# Altium footprint library Captivate library.PcbLib: 39 footprints (part 2 of 3)
Each footprint in its own frame and in the unit in brackets; x right, y up, seen from the top. Pads: shape width x height; smd on the part's side, far side on the other; paste and mask are expansions set on the pad; w line width, h text height; cw(c..) or ccw(c..) is an arc to the next point about the centre after c.
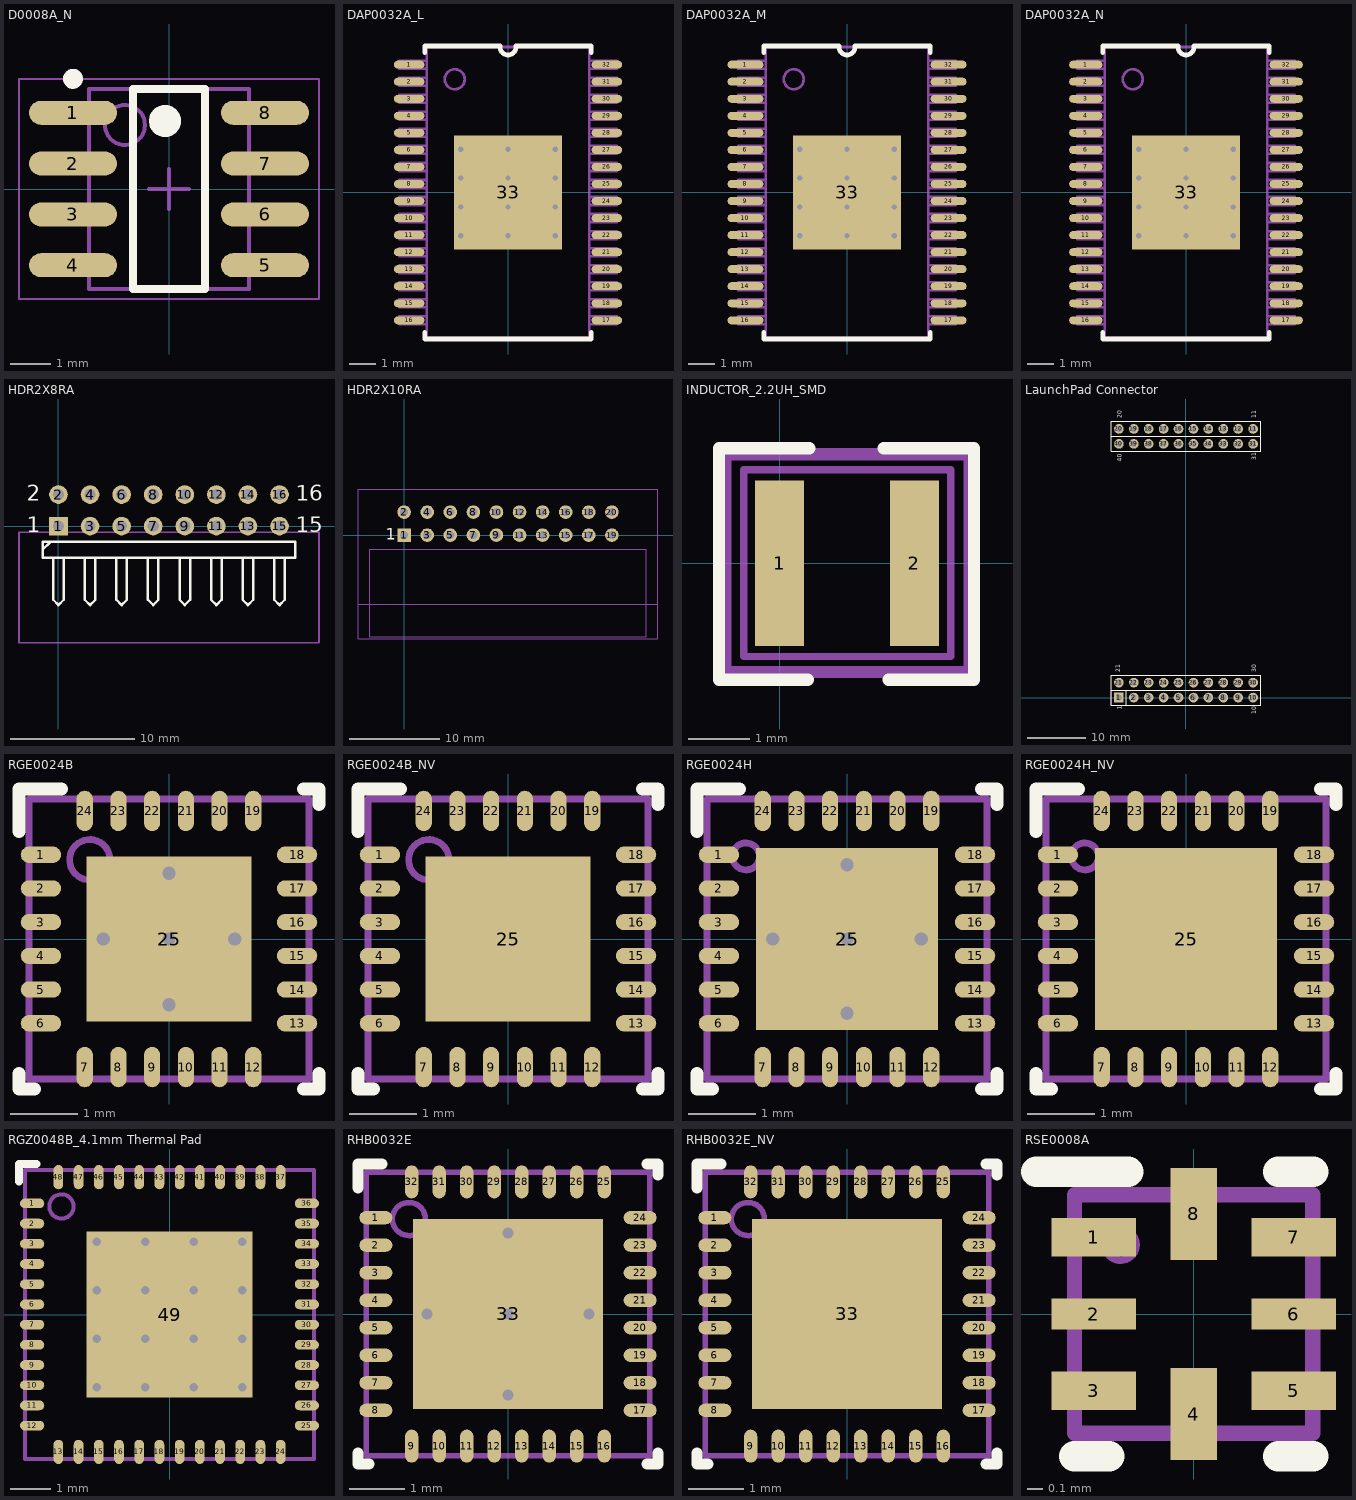
[diagram p1: the footprints below, top view; thin cyan lines are the x and y axes]

## D0008A_N [mm] "SOIC, 8-Leads, Body 4.9x3.9mm, Pitch 1.27mm, IPC Medium Density"
height 1.75
pads (8):
  oval 2.2x0.6 smd: 1(-2.4,1.905) 2(-2.4,0.635) 3(-2.4,-0.635) 4(-2.4,-1.905) 5(2.4,-1.905) 6(2.4,-0.635) 7(2.4,0.635) 8(2.4,1.905)
Top Overlay:
  circle w0.4: c-0.1,1.7 r0.2
  circle w0.25: c-2.4,2.755 r0.125
  lines w0.2: -0.9,-2.5 0.9,-2.5 0.9,2.5 -0.9,2.5 -0.9,-2.5
M5 Assembly Top:
  circle w0.1: c-1.1,1.6 r0.5
  lines w0.1: -2,-2.5 2,-2.5 2,2.5 -2,2.5 -2,-2.5
  text ".Designator" at -1.854,-0.508 h1.02
M15  Courtyards Top:
  lines w0.05: -3.75,-2.75 3.75,-2.75 3.75,2.75 -3.75,2.75 -3.75,-2.75
  lines w0.1: -0.5,0 0.5,0 ; 0,-0.5 0,0.5
3D body: height 1.75, standoff 0.1, extent -2,-2.5 2,2.5

## DAP0032A_L [mil]
height 47.24
pads (33):
  oval 46x12 smd: 1(-148.5,191.93) 2(-148.5,166.34) 3(-148.5,140.75) 4(-148.5,115.16) 5(-148.5,89.57) 6(-148.5,63.98) 7(-148.5,38.39) 8(-148.5,12.8) 9(-148.5,-12.8) 10(-148.5,-38.39) 11(-148.5,-63.98) 12(-148.5,-89.57) 13(-148.5,-115.16) 14(-148.5,-140.75) 15(-148.5,-166.34) 16(-148.5,-191.93) 17(148.5,-191.93) 18(148.5,-166.34) 19(148.5,-140.75) 20(148.5,-115.16) 21(148.5,-89.57) 22(148.5,-63.98) 23(148.5,-38.39) 24(148.5,-12.8) 25(148.5,12.8) 26(148.5,38.39) 27(148.5,63.98) 28(148.5,89.57) 29(148.5,115.16) 30(148.5,140.75) 31(148.5,166.34) 32(148.5,191.93)
  rect 161.81x171.65 smd: 33(0,0)
via -71.06,64.96 diameter 19.68 hole 7.87
via 0,64.96 diameter 19.68 hole 7.87
via 71.06,64.96 diameter 19.68 hole 7.87
via -71.06,21.65 diameter 19.68 hole 7.87
via 0,21.65 diameter 19.68 hole 7.87
via 71.06,21.65 diameter 19.68 hole 7.87
via -71.06,-21.65 diameter 19.68 hole 7.87
via 0,-21.65 diameter 19.68 hole 7.87
via 71.06,-21.65 diameter 19.68 hole 7.87
via -71.06,-64.96 diameter 19.68 hole 7.87
via 0,-64.96 diameter 19.68 hole 7.87
via 71.06,-64.96 diameter 19.68 hole 7.87
Top Overlay:
  lines w7: -125,-210 -125,-220 125,-220 125,-210 ; -125,210 -125,220 -12,220 ; -12,218.5 ccw(c0,218.5) 12,218.5 ; 12,220 125,220 125,210
M5 Assembly Top:
  circle w4: c-80,170 r15
  lines w4: -12,218.5 ccw(c0,218.5) 12,218.5 ; -163.5,-197.93 -122,-197.93 -122,-185.93 -163.5,-185.93 -163.5,-197.93 ; -163.5,-172.34 -122,-172.34 -122,-160.34 -163.5,-160.34 -163.5,-172.34 ; -163.5,-146.75 -122,-146.75 -122,-134.75 -163.5,-134.75 -163.5,-146.75 ; -163.5,-121.16 -122,-121.16 -122,-109.16 -163.5,-109.16 -163.5,-121.16 ; -163.5,-95.57 -122,-95.57 -122,-83.57 -163.5,-83.57 -163.5,-95.57 ; -163.5,-69.98 -122,-69.98 -122,-57.98 -163.5,-57.98 -163.5,-69.98 ; -163.5,-44.39 -122,-44.39 -122,-32.39 -163.5,-32.39 -163.5,-44.39 ; -163.5,-18.8 -122,-18.8 -122,-6.8 -163.5,-6.8 -163.5,-18.8 ; -163.5,6.8 -122,6.8 -122,18.8 -163.5,18.8 -163.5,6.8 ; -163.5,32.39 -122,32.39 -122,44.39 -163.5,44.39 -163.5,32.39 ; -163.5,57.98 -122,57.98 -122,69.98 -163.5,69.98 -163.5,57.98 ; -163.5,83.57 -122,83.57 -122,95.57 -163.5,95.57 -163.5,83.57 ; -163.5,109.16 -122,109.16 -122,121.16 -163.5,121.16 -163.5,109.16 ; -163.5,134.75 -122,134.75 -122,146.75 -163.5,146.75 -163.5,134.75 ; -163.5,160.34 -122,160.34 -122,172.34 -163.5,172.34 -163.5,160.34 ; -163.5,185.93 -122,185.93 -122,197.93 -163.5,197.93 -163.5,185.93 ; -122,-218.5 122,-218.5 122,218.5 -122,218.5 -122,-218.5 ; 122,-197.93 163.5,-197.93 163.5,-185.93 122,-185.93 122,-197.93 ; 122,-172.34 163.5,-172.34 163.5,-160.34 122,-160.34 122,-172.34 ; 122,-146.75 163.5,-146.75 163.5,-134.75 122,-134.75 122,-146.75 ; 122,-121.16 163.5,-121.16 163.5,-109.16 122,-109.16 122,-121.16 ; 122,-95.57 163.5,-95.57 163.5,-83.57 122,-83.57 122,-95.57 ; 122,-69.98 163.5,-69.98 163.5,-57.98 122,-57.98 122,-69.98 ; 122,-44.39 163.5,-44.39 163.5,-32.39 122,-32.39 122,-44.39 ; 122,-18.8 163.5,-18.8 163.5,-6.8 122,-6.8 122,-18.8 ; 122,6.8 163.5,6.8 163.5,18.8 122,18.8 122,6.8 ; 122,32.39 163.5,32.39 163.5,44.39 122,44.39 122,32.39 ; 122,57.98 163.5,57.98 163.5,69.98 122,69.98 122,57.98 ; 122,83.57 163.5,83.57 163.5,95.57 122,95.57 122,83.57 ; 122,109.16 163.5,109.16 163.5,121.16 122,121.16 122,109.16 ; 122,134.75 163.5,134.75 163.5,146.75 122,146.75 122,134.75 ; 122,160.34 163.5,160.34 163.5,172.34 122,172.34 122,160.34 ; 122,185.93 163.5,185.93 163.5,197.93 122,197.93 122,185.93
  text ".Designator" at -70,-20 h40
3D body: height 47.64, standoff 39.37, extent -96.35,161.17 -56.25,201.27
3D body: height 47.24, standoff 0, extent -121.98,-218.48 121.98,218.48
3D body: height 23.62, standoff 0, extent -163.48,185.96 -122.02,197.92
3D body: height 23.62, standoff 0, extent -163.48,160.36 -122.02,172.32
3D body: height 23.62, standoff 0, extent -163.48,32.41 -122.02,44.37
3D body: height 23.62, standoff 0, extent -163.48,58 -122.02,69.96
3D body: height 23.62, standoff 0, extent -163.48,83.59 -122.02,95.55
3D body: height 23.62, standoff 0, extent -163.48,134.77 -122.02,146.73
3D body: height 23.62, standoff 0, extent -163.48,109.18 -122.02,121.14
3D body: height 23.62, standoff 0, extent -163.48,6.82 -122.02,18.78
3D body: height 23.62, standoff 0, extent -163.48,-197.91 -122.02,-185.95
3D body: height 23.62, standoff 0, extent -163.48,-172.32 -122.02,-160.36
3D body: height 23.62, standoff 0, extent -163.48,-146.73 -122.02,-134.77
3D body: height 23.62, standoff 0, extent -163.48,-121.14 -122.02,-109.18
3D body: height 23.62, standoff 0, extent -163.48,-95.55 -122.02,-83.59
3D body: height 23.62, standoff 0, extent -163.48,-69.95 -122.02,-57.99
3D body: height 23.62, standoff 0, extent -163.48,-44.36 -122.02,-32.4
3D body: height 23.62, standoff 0, extent -163.48,-18.77 -122.02,-6.81
3D body: height 23.62, standoff 0, extent 122.02,58 163.48,69.96
3D body: height 23.62, standoff 0, extent 122.02,6.82 163.48,18.78
3D body: height 23.62, standoff 0, extent 122.02,32.41 163.48,44.37
3D body: height 23.62, standoff 0, extent 122.02,-18.77 163.48,-6.81
3D body: height 23.62, standoff 0, extent 122.02,-44.36 163.48,-32.4
3D body: height 23.62, standoff 0, extent 122.02,-69.95 163.48,-57.99
3D body: height 23.62, standoff 0, extent 122.02,-95.55 163.48,-83.59
3D body: height 23.62, standoff 0, extent 122.02,-121.14 163.48,-109.18
3D body: height 23.62, standoff 0, extent 122.02,-146.73 163.48,-134.77
3D body: height 23.62, standoff 0, extent 122.02,-172.32 163.48,-160.36
3D body: height 23.62, standoff 0, extent 122.02,-197.91 163.48,-185.95
3D body: height 23.62, standoff 0, extent 122.02,109.18 163.48,121.14
3D body: height 23.62, standoff 0, extent 122.02,134.77 163.48,146.73
3D body: height 23.62, standoff 0, extent 122.02,185.96 163.48,197.92
3D body: height 23.62, standoff 0, extent 122.02,160.36 163.48,172.32
3D body: height 23.62, standoff 0, extent 122.02,83.59 163.48,95.55

## DAP0032A_M [mil]
height 47.24
pads (33):
  oval 54x12 smd: 1(-152.5,191.93) 2(-152.5,166.34) 3(-152.5,140.75) 4(-152.5,115.16) 5(-152.5,89.57) 6(-152.5,63.98) 7(-152.5,38.39) 8(-152.5,12.8) 9(-152.5,-12.8) 10(-152.5,-38.39) 11(-152.5,-63.98) 12(-152.5,-89.57) 13(-152.5,-115.16) 14(-152.5,-140.75) 15(-152.5,-166.34) 16(-152.5,-191.93) 17(152.5,-191.93) 18(152.5,-166.34) 19(152.5,-140.75) 20(152.5,-115.16) 21(152.5,-89.57) 22(152.5,-63.98) 23(152.5,-38.39) 24(152.5,-12.8) 25(152.5,12.8) 26(152.5,38.39) 27(152.5,63.98) 28(152.5,89.57) 29(152.5,115.16) 30(152.5,140.75) 31(152.5,166.34) 32(152.5,191.93)
  rect 161.81x171.65 smd: 33(0,0)
via 71.06,-64.96 diameter 19.68 hole 7.87
via 0,-64.96 diameter 19.68 hole 7.87
via -71.06,-64.96 diameter 19.68 hole 7.87
via 71.06,-21.65 diameter 19.68 hole 7.87
via 0,-21.65 diameter 19.68 hole 7.87
via -71.06,-21.65 diameter 19.68 hole 7.87
via 71.06,21.65 diameter 19.68 hole 7.87
via 0,21.65 diameter 19.68 hole 7.87
via -71.06,21.65 diameter 19.68 hole 7.87
via 71.06,64.96 diameter 19.68 hole 7.87
via 0,64.96 diameter 19.68 hole 7.87
via -71.06,64.96 diameter 19.68 hole 7.87
Top Overlay:
  lines w7: -125,-210 -125,-220 125,-220 125,-210 ; -125,210 -125,220 -12,220 ; -12,218.5 ccw(c0,218.5) 12,218.5 ; 12,220 125,220 125,210
M5 Assembly Top:
  circle w4: c-80,170 r15
  lines w4: -12,218.5 ccw(c0,218.5) 12,218.5 ; -163.5,-197.93 -163.5,-185.93 -122,-185.93 -122,-197.93 -163.5,-197.93 ; -163.5,-172.34 -163.5,-160.34 -122,-160.34 -122,-172.34 -163.5,-172.34 ; -163.5,-146.75 -163.5,-134.75 -122,-134.75 -122,-146.75 -163.5,-146.75 ; -163.5,-121.16 -163.5,-109.16 -122,-109.16 -122,-121.16 -163.5,-121.16 ; -163.5,-95.57 -163.5,-83.57 -122,-83.57 -122,-95.57 -163.5,-95.57 ; -163.5,-69.98 -163.5,-57.98 -122,-57.98 -122,-69.98 -163.5,-69.98 ; -163.5,-44.39 -163.5,-32.39 -122,-32.39 -122,-44.39 -163.5,-44.39 ; -163.5,-18.8 -163.5,-6.8 -122,-6.8 -122,-18.8 -163.5,-18.8 ; -163.5,6.8 -163.5,18.8 -122,18.8 -122,6.8 -163.5,6.8 ; -163.5,32.39 -163.5,44.39 -122,44.39 -122,32.39 -163.5,32.39 ; -163.5,57.98 -163.5,69.98 -122,69.98 -122,57.98 -163.5,57.98 ; -163.5,83.57 -163.5,95.57 -122,95.57 -122,83.57 -163.5,83.57 ; -163.5,109.16 -163.5,121.16 -122,121.16 -122,109.16 -163.5,109.16 ; -163.5,134.75 -163.5,146.75 -122,146.75 -122,134.75 -163.5,134.75 ; -163.5,160.34 -163.5,172.34 -122,172.34 -122,160.34 -163.5,160.34 ; -163.5,185.93 -163.5,197.93 -122,197.93 -122,185.93 -163.5,185.93 ; -122,-218.5 122,-218.5 122,218.5 -122,218.5 -122,-218.5 ; 122,-197.93 122,-185.93 163.5,-185.93 163.5,-197.93 122,-197.93 ; 122,-172.34 122,-160.34 163.5,-160.34 163.5,-172.34 122,-172.34 ; 122,-146.75 122,-134.75 163.5,-134.75 163.5,-146.75 122,-146.75 ; 122,-121.16 122,-109.16 163.5,-109.16 163.5,-121.16 122,-121.16 ; 122,-95.57 122,-83.57 163.5,-83.57 163.5,-95.57 122,-95.57 ; 122,-69.98 122,-57.98 163.5,-57.98 163.5,-69.98 122,-69.98 ; 122,-44.39 122,-32.39 163.5,-32.39 163.5,-44.39 122,-44.39 ; 122,-18.8 122,-6.8 163.5,-6.8 163.5,-18.8 122,-18.8 ; 122,6.8 122,18.8 163.5,18.8 163.5,6.8 122,6.8 ; 122,32.39 122,44.39 163.5,44.39 163.5,32.39 122,32.39 ; 122,57.98 122,69.98 163.5,69.98 163.5,57.98 122,57.98 ; 122,83.57 122,95.57 163.5,95.57 163.5,83.57 122,83.57 ; 122,109.16 122,121.16 163.5,121.16 163.5,109.16 122,109.16 ; 122,134.75 122,146.75 163.5,146.75 163.5,134.75 122,134.75 ; 122,160.34 122,172.34 163.5,172.34 163.5,160.34 122,160.34 ; 122,185.93 122,197.93 163.5,197.93 163.5,185.93 122,185.93
  text ".Designator" at -75,-15 h40
3D body: height 47.64, standoff 39.37, extent -96.35,161.17 -56.25,201.27
3D body: height 47.24, standoff 0, extent -121.98,-218.48 121.98,218.48
3D body: height 23.62, standoff 0, extent -163.48,185.96 -122.02,197.92
3D body: height 23.62, standoff 0, extent -163.48,160.36 -122.02,172.32
3D body: height 23.62, standoff 0, extent -163.48,32.41 -122.02,44.37
3D body: height 23.62, standoff 0, extent -163.48,58 -122.02,69.96
3D body: height 23.62, standoff 0, extent -163.48,83.59 -122.02,95.55
3D body: height 23.62, standoff 0, extent -163.48,134.77 -122.02,146.73
3D body: height 23.62, standoff 0, extent -163.48,109.18 -122.02,121.14
3D body: height 23.62, standoff 0, extent -163.48,6.82 -122.02,18.78
3D body: height 23.62, standoff 0, extent -163.48,-197.91 -122.02,-185.95
3D body: height 23.62, standoff 0, extent -163.48,-172.32 -122.02,-160.36
3D body: height 23.62, standoff 0, extent -163.48,-146.73 -122.02,-134.77
3D body: height 23.62, standoff 0, extent -163.48,-121.14 -122.02,-109.18
3D body: height 23.62, standoff 0, extent -163.48,-95.55 -122.02,-83.59
3D body: height 23.62, standoff 0, extent -163.48,-69.95 -122.02,-57.99
3D body: height 23.62, standoff 0, extent -163.48,-44.36 -122.02,-32.4
3D body: height 23.62, standoff 0, extent -163.48,-18.77 -122.02,-6.81
3D body: height 23.62, standoff 0, extent 122.02,58 163.48,69.96
3D body: height 23.62, standoff 0, extent 122.02,6.82 163.48,18.78
3D body: height 23.62, standoff 0, extent 122.02,32.41 163.48,44.37
3D body: height 23.62, standoff 0, extent 122.02,-18.77 163.48,-6.81
3D body: height 23.62, standoff 0, extent 122.02,-44.36 163.48,-32.4
3D body: height 23.62, standoff 0, extent 122.02,-69.95 163.48,-57.99
3D body: height 23.62, standoff 0, extent 122.02,-95.55 163.48,-83.59
3D body: height 23.62, standoff 0, extent 122.02,-121.14 163.48,-109.18
3D body: height 23.62, standoff 0, extent 122.02,-146.73 163.48,-134.77
3D body: height 23.62, standoff 0, extent 122.02,-172.32 163.48,-160.36
3D body: height 23.62, standoff 0, extent 122.02,-197.91 163.48,-185.95
3D body: height 23.62, standoff 0, extent 122.02,109.18 163.48,121.14
3D body: height 23.62, standoff 0, extent 122.02,134.77 163.48,146.73
3D body: height 23.62, standoff 0, extent 122.02,185.96 163.48,197.92
3D body: height 23.62, standoff 0, extent 122.02,160.36 163.48,172.32
3D body: height 23.62, standoff 0, extent 122.02,83.59 163.48,95.55

## DAP0032A_N [mil]
height 47.24
pads (33):
  oval 50x12 smd: 1(-150.5,191.93) 2(-150.5,166.34) 3(-150.5,140.75) 4(-150.5,115.16) 5(-150.5,89.57) 6(-150.5,63.98) 7(-150.5,38.39) 8(-150.5,12.8) 9(-150.5,-12.8) 10(-150.5,-38.39) 11(-150.5,-63.98) 12(-150.5,-89.57) 13(-150.5,-115.16) 14(-150.5,-140.75) 15(-150.5,-166.34) 16(-150.5,-191.93) 17(150.5,-191.93) 18(150.5,-166.34) 19(150.5,-140.75) 20(150.5,-115.16) 21(150.5,-89.57) 22(150.5,-63.98) 23(150.5,-38.39) 24(150.5,-12.8) 25(150.5,12.8) 26(150.5,38.39) 27(150.5,63.98) 28(150.5,89.57) 29(150.5,115.16) 30(150.5,140.75) 31(150.5,166.34) 32(150.5,191.93)
  rect 161.81x171.65 smd: 33(0,0)
via -71.06,64.96 diameter 19.68 hole 7.87
via 0,64.96 diameter 19.68 hole 7.87
via 71.06,64.96 diameter 19.68 hole 7.87
via -71.06,21.65 diameter 19.68 hole 7.87
via 0,21.65 diameter 19.68 hole 7.87
via 71.06,21.65 diameter 19.68 hole 7.87
via -71.06,-21.65 diameter 19.68 hole 7.87
via 0,-21.65 diameter 19.68 hole 7.87
via 71.06,-21.65 diameter 19.68 hole 7.87
via -71.06,-64.96 diameter 19.68 hole 7.87
via 0,-64.96 diameter 19.68 hole 7.87
via 71.06,-64.96 diameter 19.68 hole 7.87
Top Overlay:
  lines w7: -125,-210 -125,-220 125,-220 125,-210 ; -125,210 -125,220 -12,220 ; -12,218.5 ccw(c0,218.5) 12,218.5 ; 12,220 125,220 125,210
M5 Assembly Top:
  circle w4: c-80,170 r15
  lines w4: -12,218.5 ccw(c0,218.5) 12,218.5 ; -163.5,-197.93 -122,-197.93 -122,-185.93 -163.5,-185.93 -163.5,-197.93 ; -163.5,-172.34 -122,-172.34 -122,-160.34 -163.5,-160.34 -163.5,-172.34 ; -163.5,-146.75 -122,-146.75 -122,-134.75 -163.5,-134.75 -163.5,-146.75 ; -163.5,-121.16 -122,-121.16 -122,-109.16 -163.5,-109.16 -163.5,-121.16 ; -163.5,-95.57 -122,-95.57 -122,-83.57 -163.5,-83.57 -163.5,-95.57 ; -163.5,-69.98 -122,-69.98 -122,-57.98 -163.5,-57.98 -163.5,-69.98 ; -163.5,-44.39 -122,-44.39 -122,-32.39 -163.5,-32.39 -163.5,-44.39 ; -163.5,-18.8 -122,-18.8 -122,-6.8 -163.5,-6.8 -163.5,-18.8 ; -163.5,6.8 -122,6.8 -122,18.8 -163.5,18.8 -163.5,6.8 ; -163.5,32.39 -122,32.39 -122,44.39 -163.5,44.39 -163.5,32.39 ; -163.5,57.98 -122,57.98 -122,69.98 -163.5,69.98 -163.5,57.98 ; -163.5,83.57 -122,83.57 -122,95.57 -163.5,95.57 -163.5,83.57 ; -163.5,109.16 -122,109.16 -122,121.16 -163.5,121.16 -163.5,109.16 ; -163.5,134.75 -122,134.75 -122,146.75 -163.5,146.75 -163.5,134.75 ; -163.5,160.34 -122,160.34 -122,172.34 -163.5,172.34 -163.5,160.34 ; -163.5,185.93 -122,185.93 -122,197.93 -163.5,197.93 -163.5,185.93 ; -122,-218.5 122,-218.5 122,218.5 -122,218.5 -122,-218.5 ; 122,-197.93 163.5,-197.93 163.5,-185.93 122,-185.93 122,-197.93 ; 122,-172.34 163.5,-172.34 163.5,-160.34 122,-160.34 122,-172.34 ; 122,-146.75 163.5,-146.75 163.5,-134.75 122,-134.75 122,-146.75 ; 122,-121.16 163.5,-121.16 163.5,-109.16 122,-109.16 122,-121.16 ; 122,-95.57 163.5,-95.57 163.5,-83.57 122,-83.57 122,-95.57 ; 122,-69.98 163.5,-69.98 163.5,-57.98 122,-57.98 122,-69.98 ; 122,-44.39 163.5,-44.39 163.5,-32.39 122,-32.39 122,-44.39 ; 122,-18.8 163.5,-18.8 163.5,-6.8 122,-6.8 122,-18.8 ; 122,6.8 163.5,6.8 163.5,18.8 122,18.8 122,6.8 ; 122,32.39 163.5,32.39 163.5,44.39 122,44.39 122,32.39 ; 122,57.98 163.5,57.98 163.5,69.98 122,69.98 122,57.98 ; 122,83.57 163.5,83.57 163.5,95.57 122,95.57 122,83.57 ; 122,109.16 163.5,109.16 163.5,121.16 122,121.16 122,109.16 ; 122,134.75 163.5,134.75 163.5,146.75 122,146.75 122,134.75 ; 122,160.34 163.5,160.34 163.5,172.34 122,172.34 122,160.34 ; 122,185.93 163.5,185.93 163.5,197.93 122,197.93 122,185.93
  text ".Designator" at -70,-20 h40
3D body: height 23.62, standoff 0, extent 122.02,83.59 163.48,95.55
3D body: height 23.62, standoff 0, extent 122.02,160.36 163.48,172.32
3D body: height 23.62, standoff 0, extent 122.02,185.95 163.48,197.91
3D body: height 23.62, standoff 0, extent 122.02,134.77 163.48,146.73
3D body: height 23.62, standoff 0, extent 122.02,109.18 163.48,121.14
3D body: height 23.62, standoff 0, extent 122.02,-197.91 163.48,-185.95
3D body: height 23.62, standoff 0, extent 122.02,-172.32 163.48,-160.36
3D body: height 23.62, standoff 0, extent 122.02,-146.73 163.48,-134.77
3D body: height 23.62, standoff 0, extent 122.02,-121.14 163.48,-109.18
3D body: height 23.62, standoff 0, extent 122.02,-95.55 163.48,-83.59
3D body: height 23.62, standoff 0, extent 122.02,-69.96 163.48,-58
3D body: height 23.62, standoff 0, extent 122.02,-44.37 163.48,-32.41
3D body: height 23.62, standoff 0, extent 122.02,-18.78 163.48,-6.82
3D body: height 23.62, standoff 0, extent 122.02,32.41 163.48,44.37
3D body: height 23.62, standoff 0, extent 122.02,6.82 163.48,18.78
3D body: height 23.62, standoff 0, extent 122.02,58 163.48,69.96
3D body: height 23.62, standoff 0, extent -163.48,-18.78 -122.02,-6.82
3D body: height 23.62, standoff 0, extent -163.48,-44.37 -122.02,-32.41
3D body: height 23.62, standoff 0, extent -163.48,-69.96 -122.02,-58
3D body: height 23.62, standoff 0, extent -163.48,-95.55 -122.02,-83.59
3D body: height 23.62, standoff 0, extent -163.48,-121.14 -122.02,-109.18
3D body: height 23.62, standoff 0, extent -163.48,-146.73 -122.02,-134.77
3D body: height 23.62, standoff 0, extent -163.48,-172.32 -122.02,-160.36
3D body: height 23.62, standoff 0, extent -163.48,-197.91 -122.02,-185.95
3D body: height 23.62, standoff 0, extent -163.48,6.82 -122.02,18.78
3D body: height 23.62, standoff 0, extent -163.48,109.18 -122.02,121.14
3D body: height 23.62, standoff 0, extent -163.48,134.77 -122.02,146.73
3D body: height 23.62, standoff 0, extent -163.48,83.59 -122.02,95.55
3D body: height 23.62, standoff 0, extent -163.48,58 -122.02,69.96
3D body: height 23.62, standoff 0, extent -163.48,32.41 -122.02,44.37
3D body: height 23.62, standoff 0, extent -163.48,160.36 -122.02,172.32
3D body: height 23.62, standoff 0, extent -163.48,185.95 -122.02,197.91
3D body: height 47.24, standoff 0, extent -121.98,-218.48 121.98,218.48
3D body: height 47.64, standoff 39.37, extent -96.35,161.17 -56.25,201.27

## HDR2X8RA [mm] "Connector; Header; 8x2 Position; Right Angle"
pads (16):
  rect 1.5x1.5 hole 0.9: 1(0,0)
  round 1.5 hole 0.9: 2(0,2.54) 3(2.54,0) 4(2.54,2.54) 5(5.08,0) 6(5.08,2.54) 7(7.62,0) 8(7.62,2.54) 9(10.16,0) 10(10.16,2.54) 11(12.7,0) 12(12.7,2.54) 13(15.24,0) 14(15.24,2.54) 15(17.78,0) 16(17.78,2.54)
Top Overlay:
  lines w0.2: -1.27,-1.905 -0.635,-1.27 ; -0.423,-2.54 -0.423,-5.927 0,-6.35 0.423,-5.927 0.423,-2.54 ; 2.117,-2.54 2.117,-5.927 2.54,-6.35 2.963,-5.927 2.963,-2.54 ; 4.657,-2.54 4.657,-5.927 5.08,-6.35 5.503,-5.927 5.503,-2.54 ; 7.197,-2.54 7.197,-5.927 7.62,-6.35 8.043,-5.927 8.043,-2.54 ; 9.737,-2.54 9.737,-5.927 10.16,-6.35 10.583,-5.927 10.583,-2.54 ; 12.277,-2.54 12.277,-5.927 12.7,-6.35 13.123,-5.927 13.123,-2.54 ; 14.817,-2.54 14.817,-5.927 15.24,-6.35 15.663,-5.927 15.663,-2.54 ; 17.357,-2.54 17.357,-5.927 17.78,-6.35 18.203,-5.927 18.203,-2.54 ; -1.27,-2.54 -1.27,-1.27 19.05,-1.27 19.05,-2.54 -1.27,-2.54
  text "2" at -2.54,2.032 h1.27
  text "1" at -2.54,-0.508 h1.27
  text "15" at 19.069,-0.508 h1.27
  text "16" at 19.092,2.032 h1.27
M5 Assembly Top:
  lines w0.127: -3.175,-9.398 20.955,-9.398 20.955,-0.508 -3.175,-0.508 -3.175,-9.398
3D body: height 9.27, standoff 0, extent -3.238,-9.461 21.018,-0.445

## HDR2X10RA [mm] "Connector; M-Header; 10x2 Position; Right Angle"
pads (20):
  rect 1.5x1.5 hole 0.9: 1(0,0)
  round 1.5 hole 0.9: 2(0,2.54) 3(2.54,0) 4(2.54,2.54) 5(5.08,0) 6(5.08,2.54) 7(7.62,0) 8(7.62,2.54) 9(10.16,0) 10(10.16,2.54) 11(12.7,0) 12(12.7,2.54) 13(15.24,0) 14(15.24,2.54) 15(17.78,0) 16(17.78,2.54) 17(20.32,0) 18(20.32,2.54) 19(22.86,0) 20(22.86,2.54)
Top Overlay:
  text "1" at -2.032,-0.508 h1.27
M5 Assembly Top:
  lines w0.127: -5.08,-7.62 26.67,-7.62 27.94,-7.62 ; -3.81,-11.176 -3.81,-1.524 26.67,-1.524 26.67,-11.176 -3.81,-11.176
  text "PCB edge" at 27.94,-7.62 h0.51
M15  Courtyards Top:
  lines w0.127: -5.08,-11.43 -5.08,5.08 27.94,5.08 27.94,-11.43 -5.08,-11.43
3D body: height 7.49, standoff 0, extent -3.809,-11.175 26.669,-1.525

## INDUCTOR_2.2UH_SMD [mm] "Inductor, 2.2uH, 1A, 3x3mm, SMD footprint"
height 1
pads (2):
  rect 0.8x2.7 smd: 1(0,0) 2(2.2,0)
Top Overlay:
  lines w0.2: 0.457,-1.905 -0.991,-1.905 -0.991,1.88 0.483,1.88 ; 1.702,1.88 3.175,1.88 3.175,-1.905 1.778,-1.905
M5 Assembly Top:
  lines w0.12: -0.584,-1.524 -0.584,1.524 2.794,1.524 2.794,-1.524 -0.584,-1.524
  text ".Designator" at -1.803,-3.454 h1.02
M15  Courtyards Top:
  lines w0.2: -0.889,-1.778 -0.889,1.778 3.099,1.778 3.099,-1.778 -0.889,-1.778
3D body: height 1, standoff 0, extent -0.65,-1.6 2.85,1.6

## LaunchPad Connector [mm] "Made from Samtec 100mil, 1x10, 230 mil above insulator"
height 8.382
pads (40):
  rect 1.65x1.65 hole 1.016 mask+0: 1(-11.43,0)
  round 1.65 hole 1.016 mask+0: 2(-8.89,0) 3(-6.35,0) 4(-3.81,0) 5(-1.27,0) 6(1.27,0) 7(3.81,0) 8(6.35,0) 9(8.89,0) 10(11.43,0) 11(11.43,45.72) 12(8.89,45.72) 13(6.35,45.72) 14(3.81,45.72) 15(1.27,45.72) 16(-1.27,45.72) 17(-3.81,45.72) 18(-6.35,45.72) 19(-8.89,45.72) 20(-11.43,45.72) 21(-11.43,2.54) 22(-8.89,2.54) 23(-6.35,2.54) 24(-3.81,2.54) 25(-1.27,2.54) 26(1.27,2.54) 27(3.81,2.54) 28(6.35,2.54) 29(8.89,2.54) 30(11.43,2.54) 31(11.43,43.18) 32(8.89,43.18) 33(6.35,43.18) 34(3.81,43.18) 35(1.27,43.18) 36(-1.27,43.18) 37(-3.81,43.18) 38(-6.35,43.18) 39(-8.89,43.18) 40(-11.43,43.18)
Top Overlay:
  lines w0.178: -10.16,-1.27 -10.16,1.27 ; -12.7,1.27 -12.7,3.81 12.7,3.81 12.7,1.27 ; -12.7,1.27 12.7,1.27 ; -12.7,1.27 12.7,1.27 ; -12.7,1.27 -12.7,-1.27 12.7,-1.27 12.7,1.27 ; -12.7,44.45 -12.7,46.99 12.7,46.99 12.7,44.45 ; -12.7,44.45 12.7,44.45 ; -12.7,44.45 -12.7,41.91 12.7,41.91 12.7,44.45 ; -12.7,44.45 12.7,44.45
  text "10" at 11.938,-2.794 h0.76
  text "30" at 11.938,4.318 h0.76
  text "11" at 11.938,47.498 h0.76
  text "31" at 11.938,40.386 h0.76
  text "20" at -10.922,47.498 h0.76
  text "21" at -11.176,4.318 h0.76
  text "40" at -10.922,40.132 h0.76
  text "1" at -10.922,-2.032 h0.76
M5 Assembly Top:
  rectangle: -11.938,-0.508 -10.922,0.508
  lines w0.127: -12.7,-1.27 -12.7,1.27 12.7,1.27 12.7,-1.27 -12.7,-1.27
  text ".Designator" at -1.524,-0.508 h1.02
3D body: height 8.38, standoff -2.54, extent -12.7,44.45 12.7,46.99
3D body: height 8.38, standoff -2.54, extent -12.7,41.91 12.7,44.45
3D body: height 8.38, standoff -2.54, extent -12.7,1.27 12.7,3.81
3D body: height 8.38, standoff -2.54, extent -12.7,-1.27 12.7,1.27

## RGE0024B [mm] "QFN, 24-Leads, Body 4x4mm, Pitch 0.5mm, Thermal Pad 2.45x2.45mm, TI Recommended"
height 1
pads (25):
  oval 0.6x0.24 smd: 1(-1.9,1.25) 2(-1.9,0.75) 3(-1.9,0.25) 4(-1.9,-0.25) 5(-1.9,-0.75) 6(-1.9,-1.25) 13(1.9,-1.25) 14(1.9,-0.75) 15(1.9,-0.25) 16(1.9,0.25) 17(1.9,0.75) 18(1.9,1.25)
  oval 0.24x0.6 smd: 7(-1.25,-1.9) 8(-0.75,-1.9) 9(-0.25,-1.9) 10(0.25,-1.9) 11(0.75,-1.9) 12(1.25,-1.9) 19(1.25,1.9) 20(0.75,1.9) 21(0.25,1.9) 22(-0.25,1.9) 23(-0.75,1.9) 24(-1.25,1.9)
  rect 2.45x2.45 smd paste-1.225: 25(0,0)
via 0,-0.975 diameter 0.5 hole 0.2
via 0.975,0 diameter 0.5 hole 0.2
via 0,0 diameter 0.5 hole 0.2
via -0.975,0 diameter 0.5 hole 0.2
via 0,0.975 diameter 0.5 hole 0.2
Top Overlay:
  lines w0.2: -2.225,-2 -2.225,-2.225 -2,-2.225 ; -2.225,1.6 -2.225,2.225 -1.6,2.225 ; 2,-2.225 2.225,-2.225 2.225,-2 ; 2,2.225 2.225,2.225 2.225,2
Top Paste:
  rectangle: 0.1,-1.184 1.184,-0.1
  region: -0.1,-0.1 -1.184,-0.1 -1.184,-1.184 -0.1,-1.184
  region: -0.1,1.184 -1.184,1.184 -1.184,0.1 -0.1,0.1
  rectangle: 0.1,0.1 1.184,1.184
M5 Assembly Top:
  circle w0.1: c-1.175,1.175 r0.3
  lines w0.1: -2.075,-2.075 2.075,-2.075 2.075,2.075 -2.075,2.075 -2.075,-2.075
  text ".Designator" at -1.854,-0.508 h1.02
3D body: height 1.01, standoff 0.5, extent -1.48,0.87 -0.87,1.48
3D body: height 1, standoff 0, extent -2.075,-2.075 2.075,2.075

## RGE0024B_NV [mm] "QFN, 24-Leads, Body 4x4mm, Pitch 0.5mm, Thermal Pad 2.45x2.45mm, TI Recommended"
height 1
pads (25):
  oval 0.6x0.24 smd: 1(-1.9,1.25) 2(-1.9,0.75) 3(-1.9,0.25) 4(-1.9,-0.25) 5(-1.9,-0.75) 6(-1.9,-1.25) 13(1.9,-1.25) 14(1.9,-0.75) 15(1.9,-0.25) 16(1.9,0.25) 17(1.9,0.75) 18(1.9,1.25)
  oval 0.24x0.6 smd: 7(-1.25,-1.9) 8(-0.75,-1.9) 9(-0.25,-1.9) 10(0.25,-1.9) 11(0.75,-1.9) 12(1.25,-1.9) 19(1.25,1.9) 20(0.75,1.9) 21(0.25,1.9) 22(-0.25,1.9) 23(-0.75,1.9) 24(-1.25,1.9)
  rect 2.45x2.45 smd paste-1.225: 25(0,0)
Top Overlay:
  lines w0.2: -2.225,-2 -2.225,-2.225 -2,-2.225 ; -2.225,1.6 -2.225,2.225 -1.6,2.225 ; 2,-2.225 2.225,-2.225 2.225,-2 ; 2,2.225 2.225,2.225 2.225,2
Top Paste:
  rectangle: 0.1,-1.184 1.184,-0.1
  region: -0.1,-0.1 -1.184,-0.1 -1.184,-1.184 -0.1,-1.184
  region: -0.1,1.184 -1.184,1.184 -1.184,0.1 -0.1,0.1
  rectangle: 0.1,0.1 1.184,1.184
M5 Assembly Top:
  circle w0.1: c-1.175,1.175 r0.3
  lines w0.1: -2.075,-2.075 2.075,-2.075 2.075,2.075 -2.075,2.075 -2.075,-2.075
  text ".Designator" at -1.854,-0.508 h1.02
3D body: height 1.01, standoff 0.5, extent -1.48,0.87 -0.87,1.48
3D body: height 1, standoff 0, extent -2.075,-2.075 2.075,2.075

## RGE0024H [mm] "QFN, 24-Leads, Body 4x4mm, Pitch 0.5mm, Thermal Pad 2.7x2.7mm, TI Recommended"
height 1
pads (25):
  oval 0.6x0.24 smd: 1(-1.9,1.25) 2(-1.9,0.75) 3(-1.9,0.25) 4(-1.9,-0.25) 5(-1.9,-0.75) 6(-1.9,-1.25) 13(1.9,-1.25) 14(1.9,-0.75) 15(1.9,-0.25) 16(1.9,0.25) 17(1.9,0.75) 18(1.9,1.25)
  oval 0.24x0.6 smd: 7(-1.25,-1.9) 8(-0.75,-1.9) 9(-0.25,-1.9) 10(0.25,-1.9) 11(0.75,-1.9) 12(1.25,-1.9) 19(1.25,1.9) 20(0.75,1.9) 21(0.25,1.9) 22(-0.25,1.9) 23(-0.75,1.9) 24(-1.25,1.9)
  rect 2.7x2.7 smd paste-1.35: 25(0,0)
via 0,1.1 diameter 0.5 hole 0.2
via -1.1,0 diameter 0.5 hole 0.2
via 0,0 diameter 0.5 hole 0.2
via 1.1,0 diameter 0.5 hole 0.2
via 0,-1.1 diameter 0.5 hole 0.2
Top Overlay:
  lines w0.2: -2.225,-2 -2.225,-2.225 -2,-2.225 ; -2.225,1.6 -2.225,2.225 -1.6,2.225 ; 2,-2.225 2.225,-2.225 2.225,-2 ; 2,2.225 2.225,2.225 2.225,2
Top Paste:
  rectangle: 0.1,0.1 1.288,1.288
  region: -0.1,1.288 -1.288,1.288 -1.288,0.1 -0.1,0.1
  region: -0.1,-0.1 -1.288,-0.1 -1.288,-1.288 -0.1,-1.288
  rectangle: 0.1,-1.288 1.288,-0.1
M5 Assembly Top:
  circle w0.1: c-1.5,1.225 r0.2
  lines w0.1: -2.075,-2.075 -2.075,2.075 2.075,2.075 2.075,-2.075 -2.075,-2.075
  text ".Designator" at -1.854,-0.508 h1.02
3D body: height 1.01, standoff 0.5, extent -1.703,1.022 -1.297,1.428
3D body: height 1, standoff 0, extent -2.075,-2.075 2.075,2.075

## RGE0024H_NV [mm] "QFN, 24-Leads, Body 4x4mm, Pitch 0.5mm, Thermal Pad 2.7x2.7mm, TI Recommended"
height 1
pads (25):
  oval 0.6x0.24 smd: 1(-1.9,1.25) 2(-1.9,0.75) 3(-1.9,0.25) 4(-1.9,-0.25) 5(-1.9,-0.75) 6(-1.9,-1.25) 13(1.9,-1.25) 14(1.9,-0.75) 15(1.9,-0.25) 16(1.9,0.25) 17(1.9,0.75) 18(1.9,1.25)
  oval 0.24x0.6 smd: 7(-1.25,-1.9) 8(-0.75,-1.9) 9(-0.25,-1.9) 10(0.25,-1.9) 11(0.75,-1.9) 12(1.25,-1.9) 19(1.25,1.9) 20(0.75,1.9) 21(0.25,1.9) 22(-0.25,1.9) 23(-0.75,1.9) 24(-1.25,1.9)
  rect 2.7x2.7 smd paste-1.35: 25(0,0)
Top Overlay:
  lines w0.2: -2.225,-2 -2.225,-2.225 -2,-2.225 ; -2.225,1.6 -2.225,2.225 -1.6,2.225 ; 2,-2.225 2.225,-2.225 2.225,-2 ; 2,2.225 2.225,2.225 2.225,2
Top Paste:
  rectangle: 0.1,0.1 1.288,1.288
  region: -0.1,1.288 -1.288,1.288 -1.288,0.1 -0.1,0.1
  region: -0.1,-0.1 -1.288,-0.1 -1.288,-1.288 -0.1,-1.288
  rectangle: 0.1,-1.288 1.288,-0.1
M5 Assembly Top:
  circle w0.1: c-1.5,1.225 r0.2
  lines w0.1: -2.075,-2.075 -2.075,2.075 2.075,2.075 2.075,-2.075 -2.075,-2.075
  text ".Designator" at -1.854,-0.508 h1.02
3D body: height 1.01, standoff 0.5, extent -1.703,1.022 -1.297,1.428
3D body: height 1, standoff 0, extent -2.075,-2.075 2.075,2.075

## RGZ0048B_4.1mm Thermal Pad [mm] "QFN, 48-Leads, Body 7x7mm, Pitch 0.5mm, Thermal Pad 4.1x4.1mm, TI Recommended - Oliver Updated"
height 1
pads (49):
  oval 0.6x0.24 smd: 1(-3.4,2.75) 2(-3.4,2.25) 3(-3.4,1.75) 4(-3.4,1.25) 5(-3.4,0.75) 6(-3.4,0.25) 7(-3.4,-0.25) 8(-3.4,-0.75) 9(-3.4,-1.25) 10(-3.4,-1.75) 11(-3.4,-2.25) 12(-3.4,-2.75) 25(3.4,-2.75) 26(3.4,-2.25) 27(3.4,-1.75) 28(3.4,-1.25) 29(3.4,-0.75) 30(3.4,-0.25) 31(3.4,0.25) 32(3.4,0.75) 33(3.4,1.25) 34(3.4,1.75) 35(3.4,2.25) 36(3.4,2.75)
  oval 0.24x0.6 smd: 13(-2.75,-3.4) 14(-2.25,-3.4) 15(-1.75,-3.4) 16(-1.25,-3.4) 17(-0.75,-3.4) 18(-0.25,-3.4) 19(0.25,-3.4) 20(0.75,-3.4) 21(1.25,-3.4) 22(1.75,-3.4) 23(2.25,-3.4) 24(2.75,-3.4) 37(2.75,3.4) 38(2.25,3.4) 39(1.75,3.4) 40(1.25,3.4) 41(0.75,3.4) 42(0.25,3.4) 43(-0.25,3.4) 44(-0.75,3.4) 45(-1.25,3.4) 46(-1.75,3.4) 47(-2.25,3.4) 48(-2.75,3.4)
  rect 4.1x4.1 smd paste-2.575: 49(0,0)
via 1.8,-1.8 diameter 0.5 hole 0.2
via 0.6,-1.8 diameter 0.5 hole 0.2
via -0.6,-1.8 diameter 0.5 hole 0.2
via -1.8,-1.8 diameter 0.5 hole 0.2
via 1.8,-0.6 diameter 0.5 hole 0.2
via 0.6,-0.6 diameter 0.5 hole 0.2
via -0.6,-0.6 diameter 0.5 hole 0.2
via -1.8,-0.6 diameter 0.5 hole 0.2
via 1.8,0.6 diameter 0.5 hole 0.2
via 0.6,0.6 diameter 0.5 hole 0.2
via -0.6,0.6 diameter 0.5 hole 0.2
via -1.8,0.6 diameter 0.5 hole 0.2
via 1.8,1.8 diameter 0.5 hole 0.2
via 0.6,1.8 diameter 0.5 hole 0.2
via -0.6,1.8 diameter 0.5 hole 0.2
via -1.8,1.8 diameter 0.5 hole 0.2
Top Overlay:
  lines w0.2: -3.725,3.29 -3.725,3.725 -3.29,3.725
Top Paste:
  rectangle: 0.1,0.1 1.835,1.835
  region: -0.1,1.835 -1.835,1.835 -1.835,0.1 -0.1,0.1
  region: -0.1,-0.1 -1.835,-0.1 -1.835,-1.835 -0.1,-1.835
  rectangle: 0.1,-1.835 1.835,-0.1
M5 Assembly Top:
  circle w0.1: c-2.675,2.675 r0.3
  lines w0.1: -3.575,-3.575 3.575,-3.575 3.575,3.575 -3.575,3.575 -3.575,-3.575
  text ".Designator" at -1.854,-0.508 h1.02
3D body: height 1, standoff 0, extent -3.575,-3.575 3.575,3.575

## RHB0032E [mm] "QFN, 32-Leads, Body 5x5mm, Pitch 0.5mm, Thermal Pad 3.45x3.45mm, TI Recommended"
height 1
pads (33):
  oval 0.6x0.24 smd: 1(-2.4,1.75) 2(-2.4,1.25) 3(-2.4,0.75) 4(-2.4,0.25) 5(-2.4,-0.25) 6(-2.4,-0.75) 7(-2.4,-1.25) 8(-2.4,-1.75) 17(2.4,-1.75) 18(2.4,-1.25) 19(2.4,-0.75) 20(2.4,-0.25) 21(2.4,0.25) 22(2.4,0.75) 23(2.4,1.25) 24(2.4,1.75)
  oval 0.24x0.6 smd: 9(-1.75,-2.4) 10(-1.25,-2.4) 11(-0.75,-2.4) 12(-0.25,-2.4) 13(0.25,-2.4) 14(0.75,-2.4) 15(1.25,-2.4) 16(1.75,-2.4) 25(1.75,2.4) 26(1.25,2.4) 27(0.75,2.4) 28(0.25,2.4) 29(-0.25,2.4) 30(-0.75,2.4) 31(-1.25,2.4) 32(-1.75,2.4)
  rect 3.45x3.45 smd paste-1.725: 33(0,0)
via 0,1.475 diameter 0.5 hole 0.2
via -1.475,0 diameter 0.5 hole 0.2
via 0,0 diameter 0.5 hole 0.2
via 1.475,0 diameter 0.5 hole 0.2
via 0,-1.475 diameter 0.5 hole 0.2
Top Overlay:
  lines w0.2: -2.725,-2.525 -2.725,-2.725 -2.525,-2.725 ; -2.725,2.29 -2.725,2.725 -2.29,2.725 ; 2.525,-2.725 2.725,-2.725 2.725,-2.525 ; 2.525,2.725 2.725,2.725 2.725,2.525
Top Paste:
  rectangle: 0.1,-1.586 1.586,-0.1
  region: -0.1,-0.1 -1.586,-0.1 -1.586,-1.586 -0.1,-1.586
  region: -0.1,1.586 -1.586,1.586 -1.586,0.1 -0.1,0.1
  rectangle: 0.1,0.1 1.586,1.586
M5 Assembly Top:
  circle w0.1: c-1.8,1.725 r0.3
  lines w0.1: -2.575,-2.575 -2.575,2.575 2.575,2.575 2.575,-2.575 -2.575,-2.575
  text ".Designator" at -1.854,-0.508 h1.02
3D body: height 1, standoff 0, extent -2.575,-2.575 2.575,2.575
3D body: height 1.01, standoff 0.5, extent -2.105,1.42 -1.495,2.03

## RHB0032E_NV [mm] "QFN, 32-Leads, Body 5x5mm, Pitch 0.5mm, Thermal Pad 3.45x3.45mm, TI Recommended"
height 1
pads (33):
  oval 0.6x0.24 smd: 1(-2.4,1.75) 2(-2.4,1.25) 3(-2.4,0.75) 4(-2.4,0.25) 5(-2.4,-0.25) 6(-2.4,-0.75) 7(-2.4,-1.25) 8(-2.4,-1.75) 17(2.4,-1.75) 18(2.4,-1.25) 19(2.4,-0.75) 20(2.4,-0.25) 21(2.4,0.25) 22(2.4,0.75) 23(2.4,1.25) 24(2.4,1.75)
  oval 0.24x0.6 smd: 9(-1.75,-2.4) 10(-1.25,-2.4) 11(-0.75,-2.4) 12(-0.25,-2.4) 13(0.25,-2.4) 14(0.75,-2.4) 15(1.25,-2.4) 16(1.75,-2.4) 25(1.75,2.4) 26(1.25,2.4) 27(0.75,2.4) 28(0.25,2.4) 29(-0.25,2.4) 30(-0.75,2.4) 31(-1.25,2.4) 32(-1.75,2.4)
  rect 3.45x3.45 smd paste-1.725: 33(0,0)
Top Overlay:
  lines w0.2: -2.725,-2.525 -2.725,-2.725 -2.525,-2.725 ; -2.725,2.29 -2.725,2.725 -2.29,2.725 ; 2.525,-2.725 2.725,-2.725 2.725,-2.525 ; 2.525,2.725 2.725,2.725 2.725,2.525
Top Paste:
  rectangle: 0.1,-1.586 1.586,-0.1
  region: -0.1,-0.1 -1.586,-0.1 -1.586,-1.586 -0.1,-1.586
  region: -0.1,1.586 -1.586,1.586 -1.586,0.1 -0.1,0.1
  rectangle: 0.1,0.1 1.586,1.586
M5 Assembly Top:
  circle w0.1: c-1.8,1.725 r0.3
  lines w0.1: -2.575,-2.575 -2.575,2.575 2.575,2.575 2.575,-2.575 -2.575,-2.575
  text ".Designator" at -1.854,-0.508 h1.02
3D body: height 1, standoff 0, extent -2.575,-2.575 2.575,2.575
3D body: height 1.01, standoff 0.5, extent -2.105,1.42 -1.495,2.03

## RSE0008A [mm] "QFN, 8-Leads, Body 1.5x1.5mm, Pitch 0.5mm, TI Recommended"
height 0.6
pads (8):
  rect 0.55x0.25 smd: 1(-0.65,0.5) 3(-0.65,-0.5) 5(0.65,-0.5) 7(0.65,0.5)
  rect 0.55x0.2 smd: 2(-0.65,0) 6(0.65,0)
  rect 0.3x0.6 smd: 4(0,-0.65) 8(0,0.65)
Top Overlay:
  lines w0.2: -1.025,0.925 -0.425,0.925 ; -0.775,-0.925 -0.55,-0.925 ; 0.55,-0.925 0.775,-0.925 ; 0.55,0.925 0.775,0.925
M5 Assembly Top:
  circle w0.05: c-0.475,0.45 r0.1
  lines w0.1: -0.775,-0.775 -0.775,0.775 0.775,0.775 0.775,-0.775 -0.775,-0.775
  text ".Designator" at -0.635,-0.254 h0.36
3D body: height 0.61, standoff 0.5, extent -0.583,0.342 -0.367,0.558
3D body: height 0.6, standoff 0, extent -0.775,-0.775 0.775,0.775